# EAGLE library part EMBEDDED_ADVENTURES_MOD-1016 (library SteveMarple)
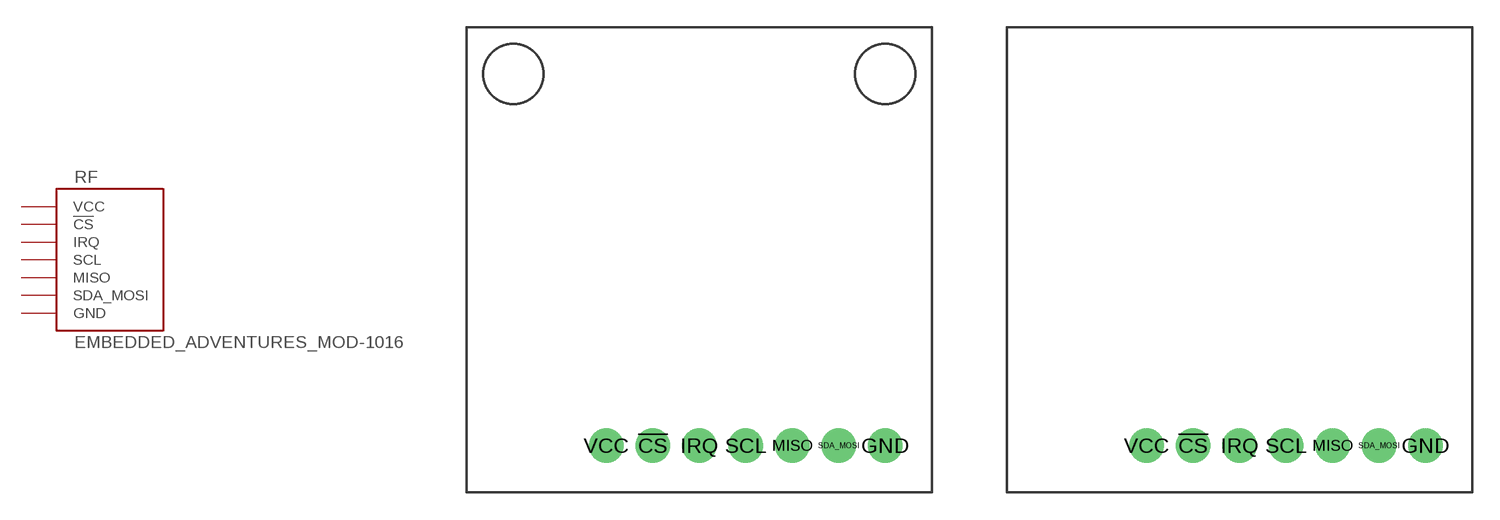
[diagram p29: symbol with the pads of EMBEDDED_ADVENTURES_MOD-1016; footprints EMBEDDED_ADVENTURES_MOD-1016, EMBEDDED_ADVENTURES_MOD-1016-NO-HOLES]

Designator prefix RF

## EMBEDDED_ADVENTURES_MOD-1016  [EMBEDDED_ADVENTURES_MOD-1016]
!CS  !CS
GND  GND  pwr
IRQ  IRQ
MISO  MISO
SCL  SCL
SDA_MOSI  SDA_MOSI
VCC  VCC  pwr

## EMBEDDED_ADVENTURES_MOD-1016NO-HOLES  [EMBEDDED_ADVENTURES_MOD-1016-NO-HOLES]
Pads as for EMBEDDED_ADVENTURES_MOD-1016

## Footprint EMBEDDED_ADVENTURES_MOD-1016 (pad centres in mm)
drill 1.016 pad 1.88: !CS -2.54,-10.16; GND 10.16,-10.16; IRQ 0,-10.16; MISO 5.08,-10.16; SCL 2.54,-10.16; SDA_MOSI 7.62,-10.16; VCC -5.08,-10.16

## Footprint EMBEDDED_ADVENTURES_MOD-1016-NO-HOLES (pad centres in mm)
drill 1.016 pad 1.88: !CS -2.54,-10.16; GND 10.16,-10.16; IRQ 0,-10.16; MISO 5.08,-10.16; SCL 2.54,-10.16; SDA_MOSI 7.62,-10.16; VCC -5.08,-10.16